# Altium schematic symbol library PTV09.SchLib: 1 symbol
Pins are listed as number, name and electrical type; pins without a type are passive.

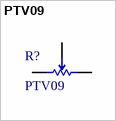
[diagram p0: symbol PTV09]

## PTV09
designator R?
PTV09 Series - 9 mm Potentiometer
footprint PTV09A-1x30
footprint PTV09A-1x25
footprint PTV09A-1x20
footprint PTV09A-1x15
footprint PTV09A-2x30
footprint PTV09A-2x25
footprint PTV09A-2x20
footprint PTV09A-2x15
pins: 1, 2, 3